# Altium footprint library stratos.PcbLib: 39 footprints (part 3 of 3)
Each footprint in its own frame and in the unit in brackets; x right, y up, seen from the top. Pads: shape width x height; smd on the part's side, far side on the other; paste and mask are expansions set on the pad; w line width, h text height; cw(c..) or ccw(c..) is an arc to the next point about the centre after c.
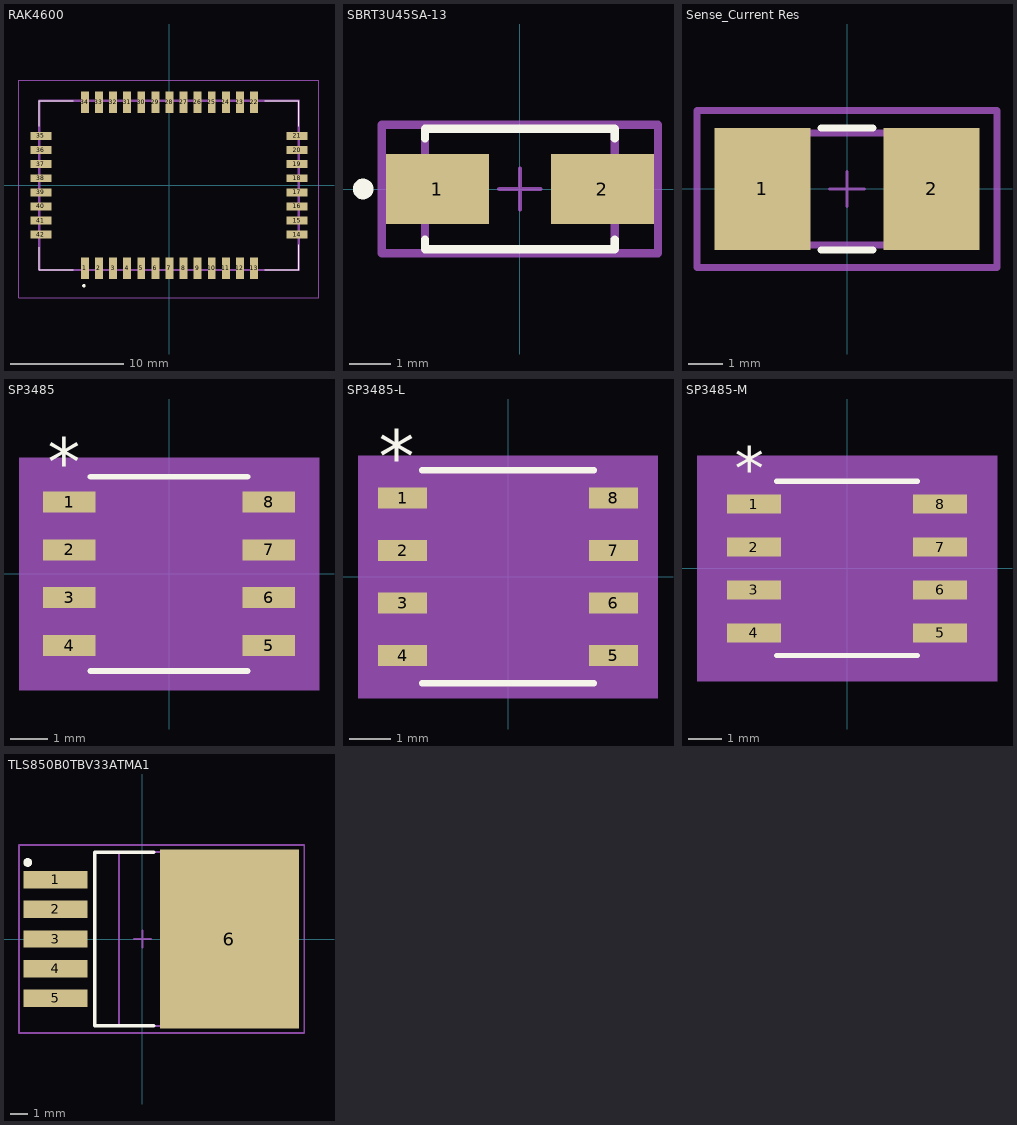
[diagram p2: the footprints below, top view; thin cyan lines are the x and y axes]

## RAK4600 [mm]
pads (42):
  rect 0.7x1.9 smd: 1(-7.5,-7.35) 2(-6.25,-7.35) 3(-5,-7.35) 4(-3.75,-7.35) 5(-2.5,-7.35) 6(-1.25,-7.35) 7(0,-7.35) 8(1.25,-7.35) 9(2.5,-7.35) 10(3.75,-7.35) 11(5,-7.35) 12(6.25,-7.35) 13(7.5,-7.35) 22(7.5,7.35) 23(6.25,7.35) 24(5,7.35) 25(3.75,7.35) 26(2.5,7.35) 27(1.25,7.35) 28(0,7.35) 29(-1.25,7.35) 30(-2.5,7.35) 31(-3.75,7.35) 32(-5,7.35) 33(-6.25,7.35) 34(-7.5,7.35)
  rect 1.9x0.7 smd: 14(11.309,-4.375) 15(11.309,-3.125) 16(11.309,-1.875) 17(11.309,-0.625) 18(11.309,0.625) 19(11.309,1.875) 20(11.309,3.125) 21(11.309,4.375) 35(-11.391,4.375) 36(-11.391,3.125) 37(-11.391,1.875) 38(-11.391,0.625) 39(-11.391,-0.625) 40(-11.391,-1.875) 41(-11.391,-3.125) 42(-11.391,-4.375)
Top Overlay:
  lines w0.1: -11.541,-7.5 -8.541,-7.5 -11.541,-7.5 ; -11.541,-7.5 -11.541,-5.5 -11.541,-7.5 ; -11.541,7.5 -8.541,7.5 -11.541,7.5 ; -11.541,7.5 -11.541,5.25 -11.541,7.5 ; 11.459,-7.5 8.459,-7.5 11.459,-7.5 ; 11.459,-7.5 11.459,-5.25 11.459,-7.5 ; 11.459,7.5 8.459,7.5 11.459,7.5 ; 11.459,7.5 11.459,5.25 11.459,7.5
  lines w0.2: -7.641,-8.9 ccw(c-7.591,-8.9) -7.541,-8.9 ; -7.641,-8.9 cw(c-7.591,-8.9) -7.541,-8.9 ; -7.641,-8.9 ccw(c-7.591,-8.9) -7.541,-8.9
Mechanical 29:
  lines w0.2: -11.541,-7.5 11.459,-7.5 11.459,7.5 -11.541,7.5 -11.541,-7.5
Mechanical 15:
  lines w0.1: -13.341,-9.95 13.259,-9.95 13.259,9.3 -13.341,9.3 -13.341,-9.95
3D body "PWB-RAK4600.stp": height 2.5, standoff 0, extent -11.45,-7.5 11.55,7.5

## SBRT3U45SA-13 [mm] "DIODE SBR 45V 3A SMA"
pads (2):
  rect 2.5x1.7 smd paste+0 mask+0: 1(-2,0) 2(2,0)
Top Overlay:
  circle w0.25: c-3.8,0 r0.125
  lines w0.2: -2.3,-1.225 -2.3,-1.46 2.3,-1.46 2.3,-1.225 ; -2.3,1.225 -2.3,1.46 2.3,1.46 2.3,1.225
Mechanical 5:
  lines w0.2: -3.35,-1.56 -3.35,1.56 3.35,1.56 3.35,-1.56 -3.35,-1.56
  text ".Designator" at 0,0.188 h1
Mechanical 29:
  lines w0.2: -2.3,-1.46 -2.3,1.46 2.3,1.46 2.3,-1.46 -2.3,-1.46
Mechanical 15:
  lines w0.2: -3.35,-1.56 -3.35,1.56 3.35,1.56 3.35,-1.56 -3.35,-1.56
Mechanical 16:
  lines w0.1: -0.5,0 0.5,0 ; 0,-0.5 0,0.5
3D body "Diode_Diodes_Inc_SBRT5A50SA-13_eec.STEP": height 0.25, standoff 0, extent -3.35,-1.56 3.35,1.56

## Sense_Current Res [mil]
pads (2):
  rect 108.46x138.04 smd paste+0 mask+0: 1(-95.5,0) 2(95.5,0)
Top Overlay:
  lines w7.87: -29.46,-69.02 29.46,-69.02 ; -29.46,69.02 29.46,69.02
Mechanical 5:
  lines w7.87: -169.41,-88.7 -169.41,88.7 169.41,88.7 169.41,-88.7 -169.41,-88.7
  text ".Designator" at 0,7.39 h39.37
Mechanical 29:
  lines w7.87: -124.02,-62.99 -124.02,62.99 124.02,62.99 124.02,-62.99 -124.02,-62.99
Mechanical 15:
  lines w7.87: -169.41,-88.7 -169.41,88.7 169.41,88.7 169.41,-88.7 -169.41,-88.7
Mechanical 16:
  lines w3.94: -19.68,0 19.68,0 ; 0,-19.68 0,19.68
3D body "Res_KOA_Speer_TLRH3APTTE10L0F_eec.STEP": height 10, standoff 0, extent -169.41,-88.7 169.41,88.7

## SP3485 [mm] "IC TRANSCEIVER HALF 1/1 8SOIC"
pads (8):
  rect 1.391x0.558 smd paste+0 mask+0: 1(-2.651,1.905) 2(-2.651,0.635) 3(-2.651,-0.635) 4(-2.651,-1.905) 5(2.651,-1.905) 6(2.651,-0.635) 7(2.651,0.635) 8(2.651,1.905)
Top Overlay:
  lines w0.152: -2.083,-2.578 2.083,-2.578 ; -2.083,2.578 2.083,2.578
  text "*" at -3.223,2.336 h1.27
Mechanical 5:
  region: 3.982,-3.086 -3.982,-3.086 -3.982,3.086 3.982,3.086
Mechanical 29:
  lines w0: -0.305,2.451 ccw(c0,2.451) 0.305,2.451
  lines w0.025: -2.997,-2.159 -2.997,-1.651 -1.956,-1.651 -1.956,-2.159 -2.997,-2.159 ; -2.997,-0.889 -2.997,-0.381 -1.956,-0.381 -1.956,-0.889 -2.997,-0.889 ; -2.997,0.381 -2.997,0.889 -1.956,0.889 -1.956,0.381 -2.997,0.381 ; -2.997,1.651 -2.997,2.159 -1.956,2.159 -1.956,1.651 -2.997,1.651 ; -1.956,-2.451 1.956,-2.451 1.956,2.451 -1.956,2.451 -1.956,-2.451 ; 1.956,-2.159 1.956,-1.651 2.997,-1.651 2.997,-2.159 1.956,-2.159 ; 1.956,-0.889 1.956,-0.381 2.997,-0.381 2.997,-0.889 1.956,-0.889 ; 1.956,0.381 1.956,0.889 2.997,0.889 2.997,0.381 1.956,0.381 ; 1.956,1.651 1.956,2.159 2.997,2.159 2.997,1.651 1.956,1.651
  text "*" at -1.892,1.105 h1.27
Mechanical 15:
  region: -2.21,-2.438 -3.601,-2.438 -3.601,2.438 -2.21,2.438 -2.21,2.705 2.21,2.705 2.21,2.438 3.601,2.438 3.601,-2.438 2.21,-2.438 2.21,-2.705 -2.21,-2.705
  lines w0.152: -3.601,-2.438 -3.601,2.438 -2.21,2.438 -2.21,2.705 2.21,2.705 2.21,2.438 3.601,2.438 3.601,-2.438 2.21,-2.438 2.21,-2.705 -2.21,-2.705 -2.21,-2.438 -3.601,-2.438
3D body "SOIC8_SP3485EN-L_EXR.step": height 1.76, standoff 0, extent -2.997,-2.451 2.997,2.451
3D body: height 0.25, standoff 0, extent 0,0 0.254,0.254

## SP3485-L [mil] "IC TRANSCEIVER HALF 1/1 8SOIC"
pads (8):
  rect 46.91x20 smd paste+0 mask+0: 1(-100.45,75) 2(-100.45,25) 3(-100.45,-25) 4(-100.45,-75) 5(100.45,-75) 6(100.45,-25) 7(100.45,25) 8(100.45,75)
Top Overlay:
  lines w6: -82,-101.5 82,-101.5 ; -82,101.5 82,101.5
  text "*" at -122.95,90 h50
Mechanical 5:
  region: 142.91,-115.5 -142.91,-115.5 -142.91,115.5 142.91,115.5
Mechanical 29:
  lines w0: -12,96.5 ccw(c0,96.5) 12,96.5
  lines w1: -118,-85 -118,-65 -77,-65 -77,-85 -118,-85 ; -118,-35 -118,-15 -77,-15 -77,-35 -118,-35 ; -118,15 -118,35 -77,35 -77,15 -118,15 ; -118,65 -118,85 -77,85 -77,65 -118,65 ; -77,-96.5 77,-96.5 77,96.5 -77,96.5 -77,-96.5 ; 77,-85 77,-65 118,-65 118,-85 77,-85 ; 77,-35 77,-15 118,-15 118,-35 77,-35 ; 77,15 77,35 118,35 118,15 77,15 ; 77,65 77,85 118,85 118,65 77,65
  text "*" at -74.5,43.5 h50
Mechanical 15:
  region: -81,-89 -127.91,-89 -127.91,89 -81,89 -81,100.5 81,100.5 81,89 127.91,89 127.91,-89 81,-89 81,-100.5 -81,-100.5
  lines w6: -127.91,-89 -127.91,89 -81,89 -81,100.5 81,100.5 81,89 127.91,89 127.91,-89 81,-89 81,-100.5 -81,-100.5 -81,-89 -127.91,-89
3D body: height 10, standoff 0, extent 0,0 10,10
3D body "SOIC8_SP3485EN-L_EXR.step": height 69.09, standoff 0, extent -117.99,-96.49 118,96.5

## SP3485-M [mm] "IC TRANSCEIVER HALF 1/1 8SOIC"
pads (8):
  rect 1.591x0.558 smd paste+0 mask+0: 1(-2.752,1.905) 2(-2.752,0.635) 3(-2.752,-0.635) 4(-2.752,-1.905) 5(2.752,-1.905) 6(2.752,-0.635) 7(2.752,0.635) 8(2.752,1.905)
Top Overlay:
  lines w0.152: -2.083,-2.578 2.083,-2.578 ; -2.083,2.578 2.083,2.578
  text "*" at -3.323,2.336 h1.27
Mechanical 5:
  region: 4.436,-3.34 -4.436,-3.34 -4.436,3.34 4.436,3.34
Mechanical 29:
  lines w0: -0.305,2.451 ccw(c0,2.451) 0.305,2.451
  lines w0.025: -2.997,-2.159 -1.956,-2.159 -1.956,-1.651 -2.997,-1.651 -2.997,-2.159 ; -2.997,-0.889 -1.956,-0.889 -1.956,-0.381 -2.997,-0.381 -2.997,-0.889 ; -2.997,0.381 -1.956,0.381 -1.956,0.889 -2.997,0.889 -2.997,0.381 ; -2.997,1.651 -1.956,1.651 -1.956,2.159 -2.997,2.159 -2.997,1.651 ; -1.956,-2.451 -1.956,2.451 1.956,2.451 1.956,-2.451 -1.956,-2.451 ; 1.956,-2.159 2.997,-2.159 2.997,-1.651 1.956,-1.651 1.956,-2.159 ; 1.956,-0.889 2.997,-0.889 2.997,-0.381 1.956,-0.381 1.956,-0.889 ; 1.956,0.381 2.997,0.381 2.997,0.889 1.956,0.889 1.956,0.381 ; 1.956,1.651 2.997,1.651 2.997,2.159 1.956,2.159 1.956,1.651
  text "*" at -1.892,1.105 h1.27
Mechanical 15:
  region: -2.464,-2.692 -4.055,-2.692 -4.055,2.692 -2.464,2.692 -2.464,2.959 2.464,2.959 2.464,2.692 4.055,2.692 4.055,-2.692 2.464,-2.692 2.464,-2.959 -2.464,-2.959
  lines w0.152: -4.055,-2.692 -2.464,-2.692 -2.464,-2.959 2.464,-2.959 2.464,-2.692 4.055,-2.692 4.055,2.692 2.464,2.692 2.464,2.959 -2.464,2.959 -2.464,2.692 -4.055,2.692 -4.055,-2.692
3D body: height 0.25, standoff 0, extent 0,0 0.254,0.254
3D body "SOIC8_SP3485EN-L_EXR.step": height 1.76, standoff 0, extent -2.997,-2.451 2.997,2.451

## TLS850B0TBV33ATMA1 [mm] "IC REG LIN 3.3V 500MA TO263-5-1"
pads (6):
  rect 3.7x1 smd paste+0 mask+0: 1(-5,3.4) 2(-5,1.7) 3(-5,0) 4(-5,-1.7) 5(-5,-3.4)
  rect 8x10.3 smd paste+0 mask+0: 6(5,0)
Top Overlay:
  circle w0.25: c-6.6,4.4 r0.125
  lines w0.2: 0.65,-5 -2.75,-5 -2.75,5 0.65,5
Mechanical 3:
  text ".DESIGNATOR" at 0,0 h1.2
Mechanical 29:
  lines w0.1: -1.35,-5 7.9,-5 7.9,5 -1.35,5 -1.35,-5
Mechanical 15:
  lines w0.1: -0.5,0 0.5,0 ; 0,-0.5 0,0.5 ; -7.1,-5.4 9.3,-5.4 9.3,5.4 -7.1,5.4 -7.1,-5.4
3D body "PG-TO263-5.stp": height 4.51, standoff 0, extent -6.4,-5 8.55,5